# EAGLE library part BEAGLE_EXPANSION (library dab5267-fluxos)
BeagleBoard C4 Expansion Provides pinouts for J3, J4, and J5. J3 is the main expansion header. J4 is the first LCD connector. J5 is the second LCD connector.
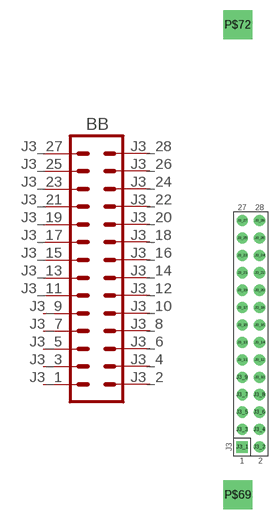
[diagram p1: symbol with the pads of BEAGLE_EXPANSION; footprint BEAGLE_EXPANSION]

Designator prefix BB

## BEAGLE_EXPANSION  [BEAGLE_EXPANSION]
J3_1  1  pas
J3_2  2  pas
J3_3  3  pas
J3_4  4  pas
J3_5  5  pas
J3_6  6  pas
J3_7  7  pas
J3_8  8  pas
J3_9  9  pas
J3_10  10  pas
J3_11  11  pas
J3_12  12  pas
J3_13  13  pas
J3_14  14  pas
J3_15  15  pas
J3_16  16  pas
J3_17  17  pas
J3_18  18  pas
J3_19  19  pas
J3_20  20  pas
J3_21  21  pas
J3_22  22  pas
J3_23  23  pas
J3_24  24  pas
J3_25  25  pas
J3_26  26  pas
J3_27  27  pas
J3_28  28  pas

## Footprint BEAGLE_EXPANSION (pad centres in mm)
drill 1 pad 1.676 square: J3_1 0,0
drill 1 pad 1.625: J3_2 2.54,0; J3_3 0,2.54; J3_4 2.54,2.54; J3_5 0,5.08; J3_6 2.54,5.08; J3_7 0,7.62; J3_8 2.54,7.62; J3_9 0,10.16; J3_10 2.54,10.16; J3_11 0,12.7; J3_12 2.54,12.7; J3_13 0,15.24; J3_14 2.54,15.24; J3_15 0,17.78; J3_16 2.54,17.78; J3_17 0,20.32; J3_18 2.54,20.32; J3_19 0,22.86; J3_20 2.54,22.86; J3_21 0,25.4; J3_22 2.54,25.4; J3_23 0,27.94; J3_24 2.54,27.94; J3_25 0,30.48; J3_26 2.54,30.48; J3_27 0,33.02; J3_28 2.54,33.02
drill 3.2 square: P$69 -0.635,-6.985; P$72 -0.635,61.595